# Altium schematic symbol library MIDOSDISP.SchLib: 1 symbol
Pins are listed as number, name and electrical type; pins without a type are passive.

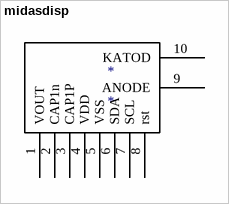
[diagram p0: symbol midasdisp]

## midasdisp
designator *
footprint Display
pins: 1 VOUT, 2 CAP1n, 3 CAP1P, 4 VDD, 5 VSS, 6 SDA, 7 SCL, 8 rst, 9 ANODE, 10 KATOD